# Altium schematic symbol library stm32g031.SchLib: 1 symbol
Pins are listed as number, name and electrical type; pins without a type are passive.

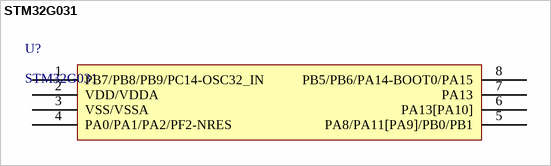
[diagram p0: symbol STM32G031]

## STM32G031
designator U?
pins: 1 PB7/PB8/PB9/PC14-OSC32_IN, 2 VDD/VDDA, 3 VSS/VSSA, 4 PA0/PA1/PA2/PF2-NRES, 5 PA8/PA11[PA9]/PB0/PB1, 6 PA13[PA10], 7 PA13, 8 PB5/PB6/PA14-BOOT0/PA15